# Altium footprint library FB0603.PcbLib: 1 footprints
Each footprint in its own frame and in the unit in brackets; x right, y up, seen from the top. Pads: shape width x height; smd on the part's side, far side on the other; paste and mask are expansions set on the pad; w line width, h text height; cw(c..) or ccw(c..) is an arc to the next point about the centre after c.
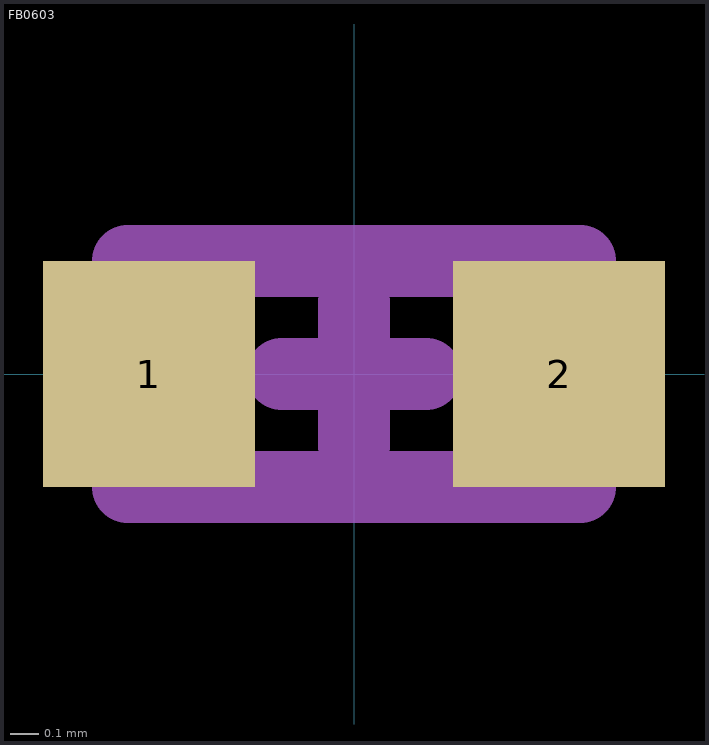
[diagram p0: the footprint, top view; thin cyan lines are the x and y axes]

## FB0603 [mm]
pads (2):
  rect 0.75x0.8 smd mask+0.06: 1(-0.725,0) 2(0.725,0)
Mechanical 13 (Mech13):
  lines w0.254: -0.8,-0.4 -0.8,0.4 0.8,0.4 0.8,-0.4 -0.8,-0.4
Mechanical 15:
  lines w0.254: -0.254,0 0,0 ; 0,-0.254 0,0 ; 0,0.254 0,0 ; 0.254,0 0,0
3D body "FB0603.stp": height 0.8, standoff 0, extent -0.8,-0.4 0.8,0.4